# Altium schematic symbol library RC0201FR-0723K7L.SchLib: 1 symbol
Pins are listed as number, name and electrical type; pins without a type are passive.

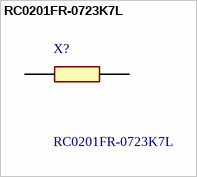
[diagram p0: symbol RC0201FR-0723K7L]

## RC0201FR-0723K7L
designator X?
Res Thick Film 0201 23.7K Ohm 1% 0.05W(1/20W) +/-200ppm/C Epoxy Pad SMD T/R; Manufacturer_Name: YAGEO; Geometry.Height: 0.26mm; Manufacturer_Part_Number: RC0201FR-0723K7L; Mouser Part Number: 603-RC0201FR-0723K7L; Mouser Price/Stock: https://www.mouser.co.uk/ProductDetail/YAGEO/RC0201FR-0723K7L?qs=Q4gDqC5t5%2FAQco3wz1Gmbw%3D%3D; Arrow Part Number: RC0201FR-0723K7L; Arrow Price/Stock: https://www.arrow.com/en/products/rc0201fr-0723k7l/yageo?region=nac; Datasheet Link: https://www.mouser.in/datasheet/2/447/PYu_RC_Group_51_RoHS_L_11-1984063.pdf
footprint RESC0603X26N
pins: 1, 2